# EAGLE library part CM4 (library CM4sch)
Raspberry Pi Compute Module 4 by Amornthep Phunsin
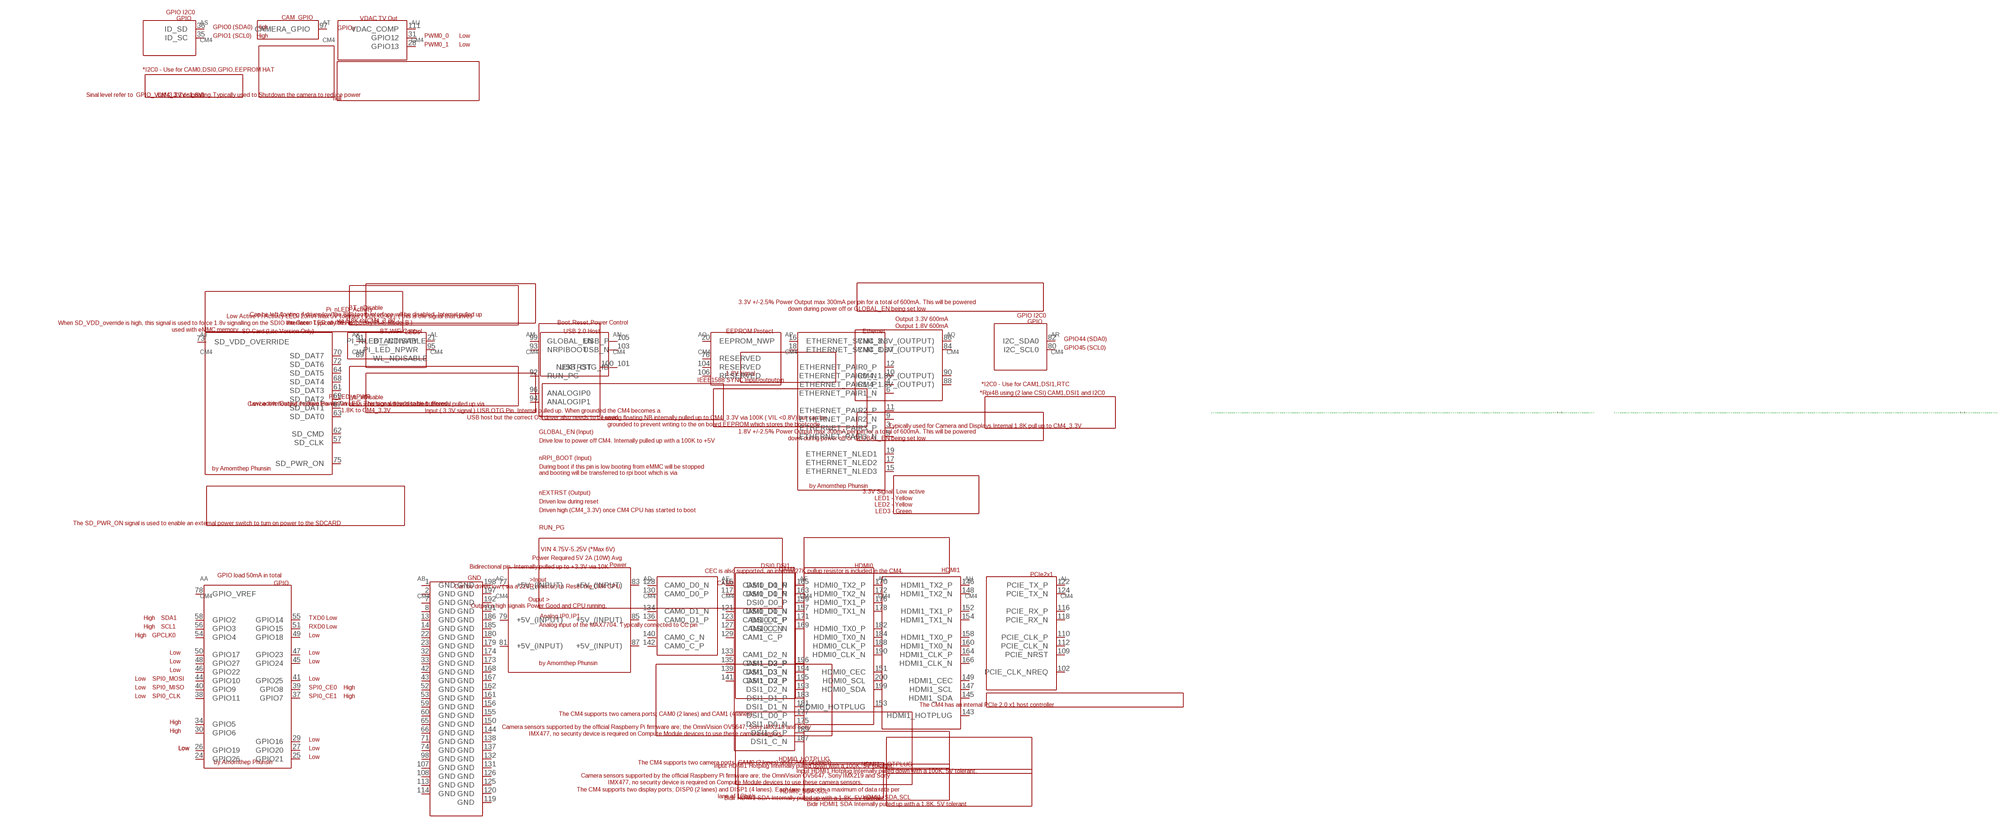
[diagram p2: symbol with the pads of CM4_CM4-DF40HC(3.0)-100DS-0.4V_3MM_1.5MM; footprints CM4_CM4-DF40HC(3.0)-100DS-0.4V_3MM_1.5MM, CM4_CM4-F40C-100DS-0.4V_1.5MM_0MM]

Designator prefix A; gates A=CM4_A B=CM4_B C=CM4_C D=CM4_D E=CM4_E F=CM4_F G=CM4_G H=CM4_H I=CM4_I J=CM4_J K=CM4_K L=CM4_L M=CM4_M N=CM4_N O=CM4_O P=CM4_P Q=CM4_Q R=CM4_R S=CM4_S T=CM4_T U=CM4_U

## CM4CM4_CM4_CM4-DF40HC(3.0)-100DS-0.4V_3MM_1.5MM  [CM4_CM4-DF40HC(3.0)-100DS-0.4V_3MM_1.5MM]
1  B:GND  pwr
2  B:GND  pwr
3  P:ETHERNET_PAIR3_P  pas
4  P:ETHERNET_PAIR1_P  pas
5  P:ETHERNET_PAIR3_N  pas
6  P:ETHERNET_PAIR1_N  pas
7  B:GND  pwr
8  B:GND  pwr
9  P:ETHERNET_PAIR2_N  pas
10  P:ETHERNET_PAIR0_N  pas
11  P:ETHERNET_PAIR2_P  pas
12  P:ETHERNET_PAIR0_P  pas
13  B:GND  pwr
14  B:GND  pwr
15  P:ETHERNET_NLED3  out
16  P:ETHERNET_SYNC_IN  in
17  P:ETHERNET_NLED2  out
18  P:ETHERNET_SYNC_OUT  in
19  P:ETHERNET_NLED1  out
20  O:EEPROM_NWP  pas
21  L:PI_NLED_ACTIVITY  oc
22  B:GND  pwr
23  B:GND  pwr
24  A:GPIO26  pas
25  A:GPIO21  pas
26  A:GPIO19  pas
27  A:GPIO20  pas
28  U:GPIO13  pas
29  A:GPIO16  pas
30  A:GPIO6  pas
31  U:GPIO12  pas
32  B:GND  pwr
33  B:GND  pwr
34  A:GPIO5  pas
35  S:ID_SC  pas
36  S:ID_SD  pas
37  A:GPIO7  pas
38  A:GPIO11  pas
39  A:GPIO8  pas
40  A:GPIO9  pas
41  A:GPIO25  pas
42  B:GND  pwr
43  B:GND  pwr
44  A:GPIO10  pas
45  A:GPIO24  pas
46  A:GPIO22  pas
47  A:GPIO23  pas
48  A:GPIO27  pas
49  A:GPIO18  pas
50  A:GPIO17  pas
51  A:GPIO15  pas
52  B:GND  pwr
53  B:GND  pwr
54  A:GPIO4  pas
55  A:GPIO14  pas
56  A:GPIO3  pas
57  J:SD_CLK  pas
58  A:GPIO2  pas
59  B:GND  pwr
60  B:GND  pwr
61  J:SD_DAT3  pas
62  J:SD_CMD  pas
63  J:SD_DAT0  pas
64  J:SD_DAT5  pas
65  B:GND  pwr
66  B:GND  pwr
67  J:SD_DAT1  pas
68  J:SD_DAT4  pas
69  J:SD_DAT2  pas
70  J:SD_DAT7  pas
71  B:GND  pwr
72  J:SD_DAT6  pas
73  J:SD_VDD_OVERRIDE  in
74  B:GND  pwr
75  J:SD_PWR_ON  out
76  O:RESERVED  pas
77  C:+5V_(INPUT)  pwr
78  A:GPIO_VREF  pwr
79  C:+5V_(INPUT)  pwr
80  R:I2C_SCL0  pas
81  C:+5V_(INPUT)  pwr
82  R:I2C_SDA0  pas
83  C:+5V_(INPUT)  pwr
84  Q:CM4_3.3V_(OUTPUT)  pwr
85  C:+5V_(INPUT)  pwr
86  Q:CM4_3.3V_(OUTPUT)  pwr
87  C:+5V_(INPUT)  pwr
88  Q:CM4_1.8V_(OUTPUT)  pwr
89  K:WL_NDISABLE  in
90  Q:CM4_1.8V_(OUTPUT)  pwr
91  K:BT_NDISABLE  in
92  M:RUN_PG  pas
93  M:NRPIBOOT  in
94  M:ANALOGIP1  pas
95  L:PI_LED_NPWR  out
96  M:ANALOGIP0  pas
97  T:CAMERA_GPIO  pas
98  B:GND  pwr
99  M:GLOBAL_EN  in
100  M:NEXTRST  out
101  N:USB_OTG_ID  in
102  I:PCIE_CLK_NREQ  in
103  N:USB_N  pas
104  O:RESERVED  pas
105  N:USB_P  pas
106  O:RESERVED  pas
107  B:GND  pwr
108  B:GND  pwr
109  I:PCIE_NRST  out
110  I:PCIE_CLK_P  out
111  U:VDAC_COMP  pas
112  I:PCIE_CLK_N  out
113  B:GND  pwr
114  B:GND  pwr
115  E:CAM1_D0_N  in
116  I:PCIE_RX_P  in
117  E:CAM1_D0_P  in
118  I:PCIE_RX_N  in
119  B:GND  pwr
120  B:GND  pwr
121  E:CAM1_D1_N  in
122  I:PCIE_TX_P  out
123  E:CAM1_D1_P  in
124  I:PCIE_TX_N  out
125  B:GND  pwr
126  B:GND  pwr
127  E:CAM1_C_N  in
128  D:CAM0_D0_N  in
129  E:CAM1_C_P  in
130  D:CAM0_D0_P  in
131  B:GND  pwr
132  B:GND  pwr
133  E:CAM1_D2_N  in
134  D:CAM0_D1_N  in
135  E:CAM1_D2_P  in
136  D:CAM0_D1_P  in
137  B:GND  pwr
138  B:GND  pwr
139  E:CAM1_D3_N  in
140  D:CAM0_C_N  in
141  E:CAM1_D3_P  in
142  D:CAM0_C_P  in
143  H:HDMI1_HOTPLUG  in
144  B:GND  pwr
145  H:HDMI1_SDA
146  H:HDMI1_TX2_P  out
147  H:HDMI1_SCL  oc
148  H:HDMI1_TX2_N  out
149  H:HDMI1_CEC  oc
150  B:GND  pwr
151  G:HDMI0_CEC  oc
152  H:HDMI1_TX1_P  out
153  G:HDMI0_HOTPLUG  in
154  H:HDMI1_TX1_N  out
155  B:GND  pwr
156  B:GND  pwr
157  F:DSI0_D0_N  out
158  H:HDMI1_TX0_P  out
159  F:DSI0_D0_P  out
160  H:HDMI1_TX0_N  out
161  B:GND  pwr
162  B:GND  pwr
163  F:DSI0_D1_N  out
164  H:HDMI1_CLK_P  out
165  F:DSI0_D1_P  out
166  H:HDMI1_CLK_N  out
167  B:GND  pwr
168  B:GND  pwr
169  F:DSI0_C_N  out
170  G:HDMI0_TX2_P  out
171  F:DSI0_C_P  out
172  G:HDMI0_TX2_N  out
173  B:GND  pwr
174  B:GND  pwr
175  F:DSI1_D0_N  out
176  G:HDMI0_TX1_P  out
177  F:DSI1_D0_P  out
178  G:HDMI0_TX1_N  out
179  B:GND  pwr
180  B:GND  pwr
181  F:DSI1_D1_N  out
182  G:HDMI0_TX0_P  out
183  F:DSI1_D1_P  out
184  G:HDMI0_TX0_N  out
185  B:GND  pwr
186  B:GND  pwr
187  F:DSI1_C_N  out
188  G:HDMI0_CLK_P  out
189  F:DSI1_C_P  out
190  G:HDMI0_CLK_N  out
191  B:GND  pwr
192  B:GND  pwr
193  F:DSI1_D2_N  out
194  F:DSI1_D3_N  out
195  F:DSI1_D2_P  out
196  F:DSI1_D3_P  out
197  B:GND  pwr
198  B:GND  pwr
199  G:HDMI0_SDA
200  G:HDMI0_SCL  oc

## CM4CM4_CM4_CM4-F40C-100DS-0.4V_1.5MM_0MM  [CM4_CM4-F40C-100DS-0.4V_1.5MM_0MM]
Pads as for CM4_CM4-DF40HC(3.0)-100DS-0.4V_3MM_1.5MM

## Footprint CM4_CM4-DF40HC(3.0)-100DS-0.4V_3MM_1.5MM (pad centres in mm)
drill 0.127 pad 0.254 round: 1 95.25,0; 2 93.98,0; 3 224.79,0; 4 229.87,0; 5 226.06,0; 6 231.14,0; 7 92.71,0; 8 91.44,0; 9 228.6,0; 10 233.68,0; 11 227.33,0; 12 232.41,0; 13 90.17,0; 14 88.9,0; 15 234.95,0; 16 223.52,0; 17 236.22,0; 18 222.25,0; 19 237.49,0; 20 220.98,0; 21 203.2,0; 22 87.63,0; 23 86.36,0; 24 2.54,0; 25 0,0; 26 5.08,0; 27 1.27,0; 28 250.19,0; 29 3.81,0; 30 6.35,0; 31 251.46,0; 32 85.09,0; 33 83.82,0; 34 8.89,0; 35 246.38,0; 36 247.65,0; 37 10.16,0; 38 12.7,0; 39 11.43,0; 40 15.24,0; 41 13.97,0; 42 82.55,0; 43 81.28,0; 44 16.51,0; 45 17.78,0; 46 20.32,0; 47 19.05,0; 48 21.59,0; 49 22.86,0; 50 24.13,0; 51 25.4,0; 52 80.01,0; 53 78.74,0; 54 27.94,0; 55 26.67,0; 56 29.21,0; 57 199.39,0; 58 7.62,0; 59 77.47,0; 60 76.2,0; 61 193.04,0; 62 198.12,0; 63 196.85,0; 64 190.5,0; 65 74.93,0; 66 73.66,0; 67 195.58,0; 68 191.77,0; 69 194.31,0; 70 187.96,0; 71 72.39,0; 72 189.23,0; 73 185.42,0; 74 71.12,0; 75 186.69,0; 76 219.71,0; 77 102.87,0; 78 30.48,0; 79 101.6,0; 80 245.11,0; 81 100.33,0; 82 243.84,0; 83 99.06,0; 84 240.03,0; 85 97.79,0; 86 238.76,0; 87 96.52,0; 88 242.57,0; 89 200.66,0; 90 241.3,0; 91 201.93,0; 92 208.28,0; 93 210.82,0; 94 205.74,0; 95 204.47,0; 96 207.01,0; 97 248.92,0; 98 69.85,0; 99 209.55,0; 100 212.09,0; 101 214.63,0; 102 184.15,0; 103 215.9,0; 104 218.44,0; 105 213.36,0; 106 217.17,0; 107 68.58,0; 108 67.31,0; 109 177.8,0; 110 179.07,0; 111 252.73,0; 112 180.34,0; 113 66.04,0; 114 64.77,0; 115 120.65,0; 116 181.61,0; 117 119.38,0; 118 182.88,0; 119 63.5,0; 120 62.23,0; 121 118.11,0; 122 175.26,0; 123 116.84,0; 124 176.53,0; 125 60.96,0; 126 59.69,0; 127 123.19,0; 128 107.95,0; 129 121.92,0; 130 106.68,0; 131 58.42,0; 132 57.15,0; 133 115.57,0; 134 105.41,0; 135 114.3,0; 136 104.14,0; 137 55.88,0; 138 54.61,0; 139 113.03,0; 140 110.49,0; 141 111.76,0; 142 109.22,0; 143 170.18,0; 144 53.34,0; 145 167.64,0; 146 160.02,0; 147 168.91,0; 148 161.29,0; 149 173.99,0; 150 52.07,0; 151 158.75,0; 152 162.56,0; 153 154.94,0; 154 163.83,0; 155 50.8,0; 156 49.53,0; 157 140.97,0; 158 165.1,0; 159 139.7,0; 160 166.37,0; 161 48.26,0; 162 46.99,0; 163 138.43,0; 164 171.45,0; 165 137.16,0; 166 172.72,0; 167 45.72,0; 168 44.45,0; 169 143.51,0; 170 144.78,0; 171 142.24,0; 172 146.05,0; 173 43.18,0; 174 41.91,0; 175 133.35,0; 176 147.32,0; 177 132.08,0; 178 148.59,0; 179 40.64,0; 180 39.37,0; 181 130.81,0; 182 149.86,0; 183 129.54,0; 184 151.13,0; 185 38.1,0; 186 36.83,0; 187 135.89,0; 188 156.21,0; 189 134.62,0; 190 157.48,0; 191 35.56,0; 192 34.29,0; 193 128.27,0; 194 125.73,0; 195 127,0; 196 124.46,0; 197 33.02,0; 198 31.75,0; 199 152.4,0; 200 153.67,0

## Footprint CM4_CM4-F40C-100DS-0.4V_1.5MM_0MM (pad centres in mm)
drill 0.127 pad 0.254 round: 1 95.25,0; 2 93.98,0; 3 224.79,0; 4 229.87,0; 5 226.06,0; 6 231.14,0; 7 92.71,0; 8 91.44,0; 9 228.6,0; 10 233.68,0; 11 227.33,0; 12 232.41,0; 13 90.17,0; 14 88.9,0; 15 234.95,0; 16 223.52,0; 17 236.22,0; 18 222.25,0; 19 237.49,0; 20 220.98,0; 21 203.2,0; 22 87.63,0; 23 86.36,0; 24 2.54,0; 25 0,0; 26 5.08,0; 27 1.27,0; 28 250.19,0; 29 3.81,0; 30 6.35,0; 31 251.46,0; 32 85.09,0; 33 83.82,0; 34 8.89,0; 35 246.38,0; 36 247.65,0; 37 10.16,0; 38 12.7,0; 39 11.43,0; 40 15.24,0; 41 13.97,0; 42 82.55,0; 43 81.28,0; 44 16.51,0; 45 17.78,0; 46 20.32,0; 47 19.05,0; 48 21.59,0; 49 22.86,0; 50 24.13,0; 51 25.4,0; 52 80.01,0; 53 78.74,0; 54 27.94,0; 55 26.67,0; 56 29.21,0; 57 199.39,0; 58 7.62,0; 59 77.47,0; 60 76.2,0; 61 193.04,0; 62 198.12,0; 63 196.85,0; 64 190.5,0; 65 74.93,0; 66 73.66,0; 67 195.58,0; 68 191.77,0; 69 194.31,0; 70 187.96,0; 71 72.39,0; 72 189.23,0; 73 185.42,0; 74 71.12,0; 75 186.69,0; 76 219.71,0; 77 102.87,0; 78 30.48,0; 79 101.6,0; 80 245.11,0; 81 100.33,0; 82 243.84,0; 83 99.06,0; 84 240.03,0; 85 97.79,0; 86 238.76,0; 87 96.52,0; 88 242.57,0; 89 200.66,0; 90 241.3,0; 91 201.93,0; 92 208.28,0; 93 210.82,0; 94 205.74,0; 95 204.47,0; 96 207.01,0; 97 248.92,0; 98 69.85,0; 99 209.55,0; 100 212.09,0; 101 214.63,0; 102 184.15,0; 103 215.9,0; 104 218.44,0; 105 213.36,0; 106 217.17,0; 107 68.58,0; 108 67.31,0; 109 177.8,0; 110 179.07,0; 111 252.73,0; 112 180.34,0; 113 66.04,0; 114 64.77,0; 115 120.65,0; 116 181.61,0; 117 119.38,0; 118 182.88,0; 119 63.5,0; 120 62.23,0; 121 118.11,0; 122 175.26,0; 123 116.84,0; 124 176.53,0; 125 60.96,0; 126 59.69,0; 127 123.19,0; 128 107.95,0; 129 121.92,0; 130 106.68,0; 131 58.42,0; 132 57.15,0; 133 115.57,0; 134 105.41,0; 135 114.3,0; 136 104.14,0; 137 55.88,0; 138 54.61,0; 139 113.03,0; 140 110.49,0; 141 111.76,0; 142 109.22,0; 143 170.18,0; 144 53.34,0; 145 167.64,0; 146 160.02,0; 147 168.91,0; 148 161.29,0; 149 173.99,0; 150 52.07,0; 151 158.75,0; 152 162.56,0; 153 154.94,0; 154 163.83,0; 155 50.8,0; 156 49.53,0; 157 140.97,0; 158 165.1,0; 159 139.7,0; 160 166.37,0; 161 48.26,0; 162 46.99,0; 163 138.43,0; 164 171.45,0; 165 137.16,0; 166 172.72,0; 167 45.72,0; 168 44.45,0; 169 143.51,0; 170 144.78,0; 171 142.24,0; 172 146.05,0; 173 43.18,0; 174 41.91,0; 175 133.35,0; 176 147.32,0; 177 132.08,0; 178 148.59,0; 179 40.64,0; 180 39.37,0; 181 130.81,0; 182 149.86,0; 183 129.54,0; 184 151.13,0; 185 38.1,0; 186 36.83,0; 187 135.89,0; 188 156.21,0; 189 134.62,0; 190 157.48,0; 191 35.56,0; 192 34.29,0; 193 128.27,0; 194 125.73,0; 195 127,0; 196 124.46,0; 197 33.02,0; 198 31.75,0; 199 152.4,0; 200 153.67,0